# Altium footprint library AV C4AE 5.0uf 900V.PcbLib: 1 footprints
Each footprint in its own frame and in the unit in brackets; x right, y up, seen from the top. Pads: shape width x height; smd on the part's side, far side on the other; paste and mask are expansions set on the pad; w line width, h text height; cw(c..) or ccw(c..) is an arc to the next point about the centre after c.
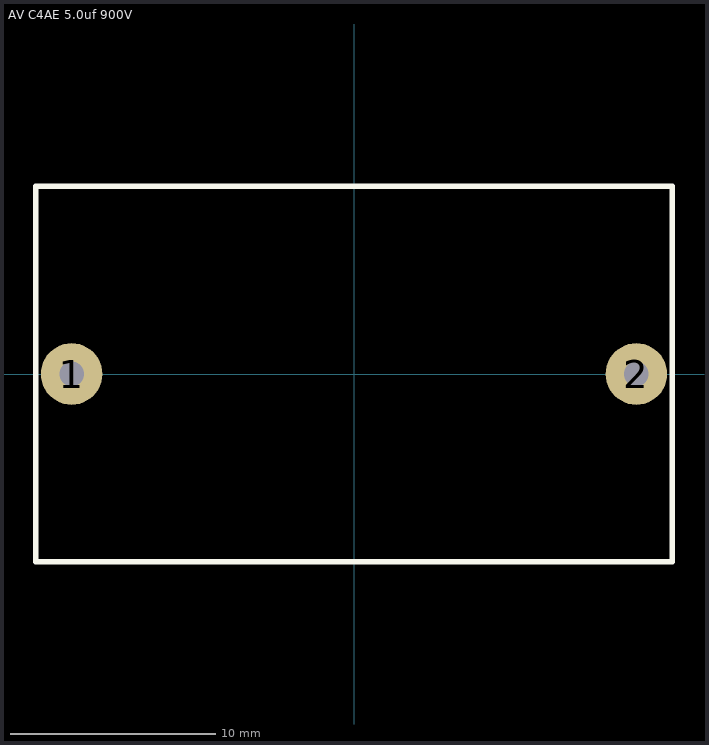
[diagram p0: the footprint, top view; thin cyan lines are the x and y axes]

## AV C4AE 5.0uf 900V [mm] "AV C4AE 5.0uf 900V"
pads (2):
  round 3 hole 1.2: 1(-13.75,0) 2(13.75,0)
Top Overlay:
  lines w0.254: -15.494,-9.144 15.494,-9.144 15.494,9.144 -15.494,9.144 -15.494,-9.144
3D body "5 uF 900v.STEP": height 28.41, standoff -3.7, extent -15.5,-9.2 15.5,9.2